# Altium footprint library 6128驱动器.PcbLib: 13 footprints
Each footprint in its own frame and in the unit in brackets; x right, y up, seen from the top. Pads: shape width x height; smd on the part's side, far side on the other; paste and mask are expansions set on the pad; w line width, h text height; cw(c..) or ccw(c..) is an arc to the next point about the centre after c.
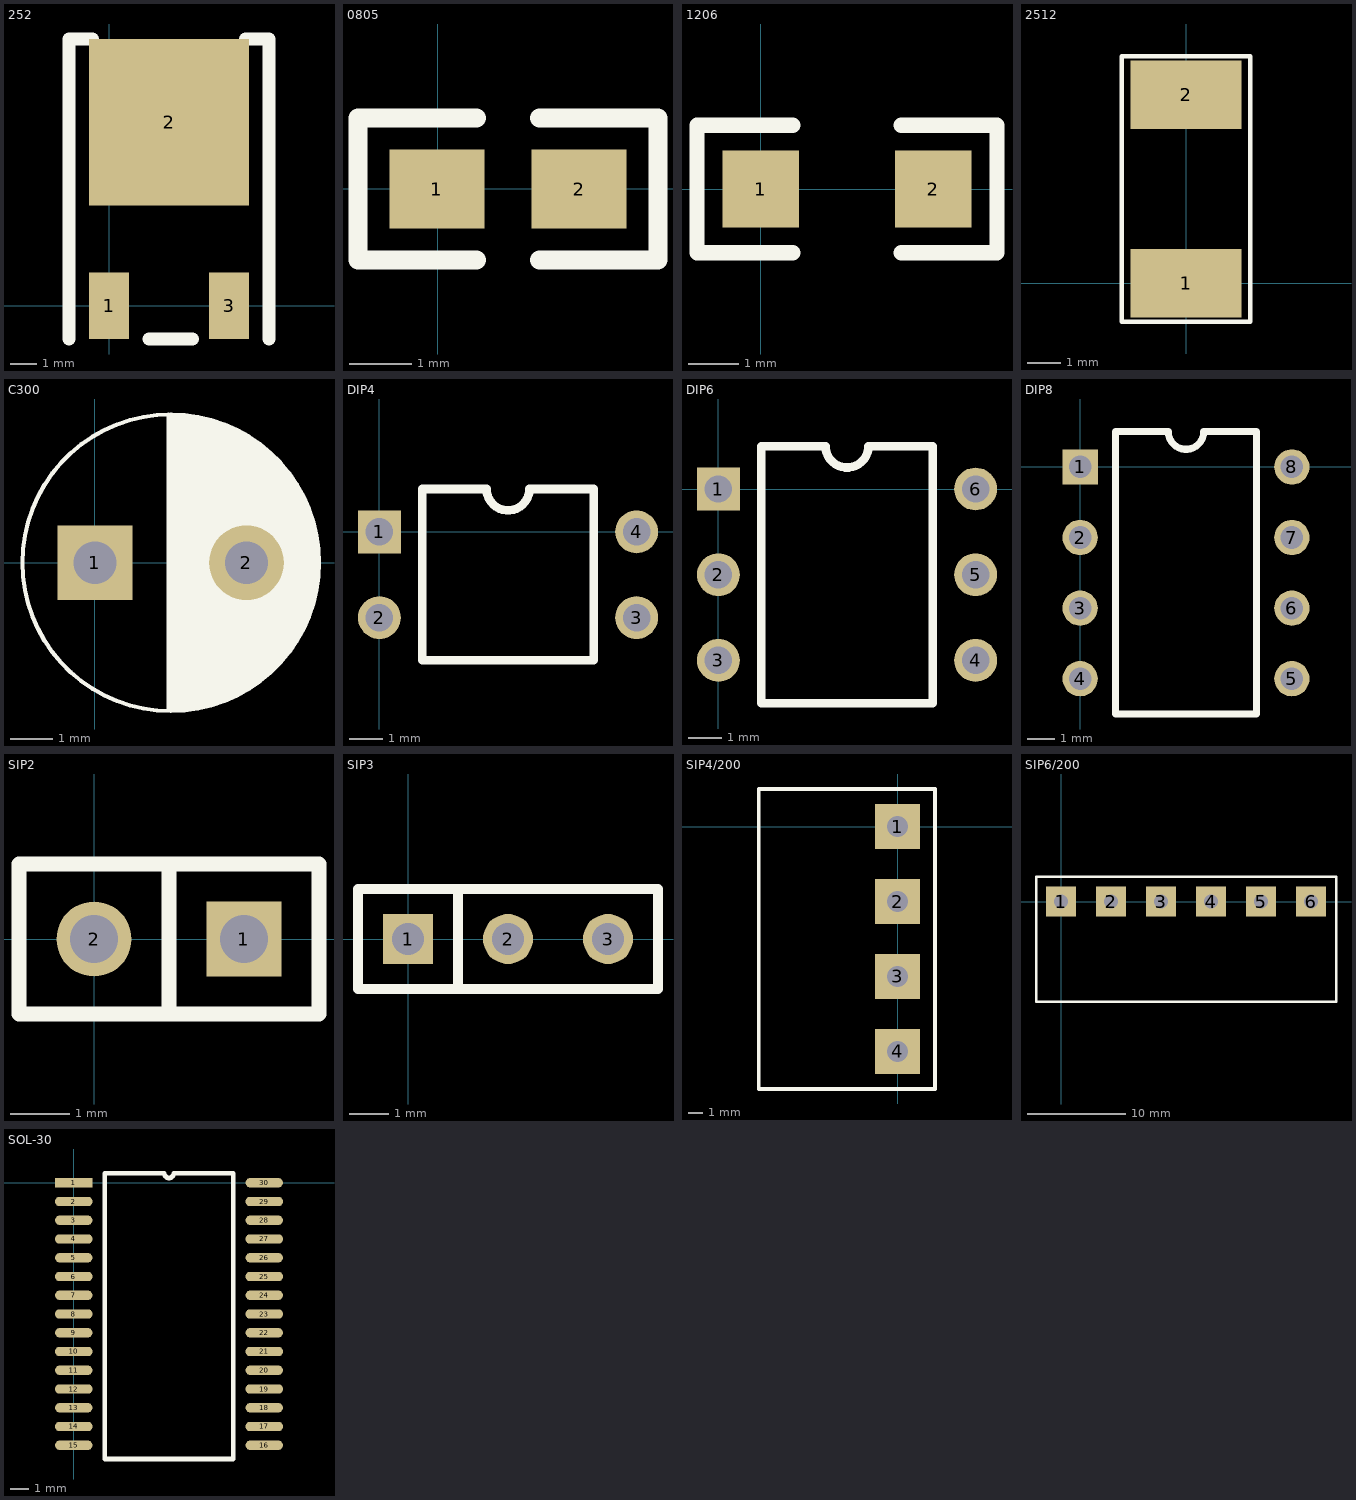
[diagram p0: the footprints below, top view; thin cyan lines are the x and y axes]

## 252 [mil]
pads (3):
  rect 60x100 smd: 1(0,0) 3(180,0)
  rect 240x250 smd: 2(90,275)
Top Overlay:
  lines w20: -60,-50 -60,400 -25,400 ; 60,-50 125,-50 ; 205,400 240,400 240,-50

## 0805 [mil]
pads (2):
  rect 60x50 smd: 1(-0.44,-0.28) 2(89.56,-0.28)
Top Overlay:
  lines w12: 24.56,-45.28 -50.44,-45.28 -50.44,44.72 24.56,44.72 ; 64.56,-45.28 139.56,-45.28 139.56,44.72 64.56,44.72

## 1206 [mil]
pads (2):
  rect 60x60 smd: 1(0,0) 2(135,0)
Top Overlay:
  lines w12: 25,-50 -50,-50 -50,50 25,50 ; 110,-50 185,-50 185,50 110,50

## 2512 [mil]
pads (2):
  rect 130x80 smd: 1(-0.39,0.06) 2(-0.39,220.06)
Top Overlay:
  lines w5: -75.39,-44.94 74.61,-44.94 74.61,265.06 -75.39,265.06 -75.39,-44.94

## C300 [mil]
pads (2):
  rect 70x70 hole 40: 1(0,0)
  round 70 hole 40: 2(141.73,0)
Top Overlay:
  circle w3.94: c70.87,0 r138.69
  lines w3.94: 68.8,-134.34 100.34,-134.34 ; 68.8,-130.4 115.09,-130.4 ; 68.8,-126.46 125.6,-126.46 ; 68.8,-122.53 134.09,-122.53 ; 68.8,-118.59 141.31,-118.59 ; 68.8,-114.65 147.64,-114.65 ; 68.8,-110.72 153.28,-110.72 ; 68.8,-106.78 158.37,-106.78 ; 68.8,-102.84 163,-102.84 ; 68.8,-98.9 167.24,-98.9 ; 68.8,-94.97 171.14,-94.97 ; 68.8,-91.03 174.74,-91.03 ; 68.8,-87.09 178.07,-87.09 ; 68.8,-83.16 181.16,-83.16 ; 68.8,-79.22 184.02,-79.22 ; 68.8,-75.28 186.67,-75.28 ; 68.8,-71.35 189.13,-71.35 ; 68.8,-67.41 191.41,-67.41 ; 68.8,-63.47 193.52,-63.47 ; 68.8,-59.53 195.46,-59.53 ; 68.8,-55.6 197.25,-55.6 ; 68.8,-51.66 198.9,-51.66 ; 68.8,-47.72 200.4,-47.72 ; 68.8,-43.79 201.76,-43.79 ; 68.8,-39.85 202.99,-39.85 ; 68.8,-35.91 204.09,-35.91 ; 68.8,-31.98 205.06,-31.98 ; 68.8,-28.04 205.91,-28.04 ; 68.8,-24.1 206.64,-24.1 ; 68.8,-20.16 207.25,-20.16 ; 68.8,-16.23 207.74,-16.23 ; 68.8,-12.29 208.12,-12.29 ; 68.8,-8.35 208.38,-8.35 ; 68.8,-4.42 208.52,-4.42 ; 68.8,-0.48 208.56,-0.48 ; 68.8,3.46 208.48,3.46 ; 68.8,7.39 208.29,7.39 ; 68.8,11.33 207.98,11.33 ; 68.8,15.27 207.57,15.27 ; 68.8,19.21 207.04,19.21 ; 68.8,23.14 206.4,23.14 ; 68.8,27.08 205.64,27.08 ; 68.8,31.02 204.76,31.02 ; 68.8,34.95 203.76,34.95 ; 68.8,38.89 202.64,38.89 ; 68.8,42.83 201.39,42.83 ; 68.8,46.76 200.02,46.76 ; 68.8,50.7 198.51,50.7 ; 68.8,54.64 196.86,54.64 ; 68.8,58.58 195.06,58.58 ; 68.8,62.51 193.12,62.51 ; 68.8,66.45 191.01,66.45 ; 68.8,70.39 188.75,70.39 ; 68.8,74.32 186.3,74.32 ; 68.8,78.26 183.67,78.26 ; 68.8,82.2 180.84,82.2 ; 68.8,86.13 177.79,86.13 ; 68.8,90.07 174.51,90.07 ; 68.8,94.01 170.98,94.01 ; 68.8,97.95 167.16,97.95 ; 68.8,101.88 163.02,101.88 ; 68.8,105.82 158.51,105.82 ; 68.8,109.76 153.59,109.76 ; 68.8,113.69 148.17,113.69 ; 68.8,117.63 142.13,117.63 ; 68.8,121.57 135.32,121.57 ; 68.8,125.5 127.47,125.5 ; 68.8,129.44 118.07,129.44 ; 68.8,133.38 105.98,133.38 ; 68.8,137.32 86.31,137.32 ; 71.66,-137.17 71.66,138.39 ; 75.59,-137.14 75.59,138.25 ; 79.53,-137 79.53,138 ; 83.47,-136.75 83.47,137.64 ; 87.4,-136.38 87.4,137.17 ; 91.34,-135.89 91.34,136.59 ; 95.28,-135.29 95.28,135.88 ; 99.21,-134.57 99.21,135.07 ; 103.15,-133.72 103.15,134.13 ; 107.09,-132.76 107.09,133.07 ; 111.03,-131.66 111.03,131.88 ; 114.96,-130.44 114.96,130.57 ; 118.9,-129.09 118.9,129.13 ; 122.84,-127.6 122.84,127.55 ; 126.77,-125.96 126.77,125.82 ; 130.71,-124.18 130.71,123.95 ; 134.65,-122.24 134.65,121.93 ; 138.58,-120.14 138.58,119.75 ; 142.52,-117.87 142.52,117.39 ; 146.46,-115.42 146.46,114.85 ; 150.4,-112.78 150.4,112.12 ; 154.33,-109.93 154.33,109.18 ; 158.27,-106.86 158.27,106.02 ; 162.21,-103.54 162.21,102.62 ; 166.14,-99.95 166.14,98.94 ; 170.08,-96.07 170.08,94.96 ; 174.02,-91.85 174.02,90.64 ; 177.95,-87.24 177.95,85.94 ; 181.89,-82.18 181.89,80.77 ; 185.83,-76.57 185.83,75.05 ; 189.77,-70.28 189.77,68.65 ; 193.7,-63.11 193.7,61.36 ; 197.64,-54.71 197.64,52.81 ; 201.58,-44.34 201.58,42.28 ; 205.51,-29.95 205.51,27.67 ; 68.8,-137.17 72.73,-137.17 ccw(c72.73,-1.35) 208.56,-1.35 ccw(c68.8,-1.35) 68.8,138.42 68.8,-137.17

## DIP4 [mil]
pads (4):
  rect 50x50 hole 32: 1(0,0)
  round 50 hole 32: 2(0,-100) 3(300,-100) 4(300,0)
Top Overlay:
  lines w10: 50,-150 250,-150 250,50 175,50 cw(c150,50) 125,50 50,50 50,-150

## DIP6 [mil]
pads (6):
  rect 50x50 hole 32: 1(0,0)
  round 50 hole 32: 2(0,-100) 3(0,-200) 4(300,-200) 5(300,-100) 6(300,0)
Top Overlay:
  lines w10: 50,-250 250,-250 250,50 175,50 cw(c150,50) 125,50 50,50 50,-250

## DIP8 [mil]
pads (8):
  rect 50x50 hole 32: 1(0,-0.42)
  round 50 hole 32: 2(0,-100.42) 3(0,-200.42) 4(0,-300.42) 5(300,-300.42) 6(300,-200.42) 7(300,-100.42) 8(300,-0.42)
Top Overlay:
  lines w10: 50,-350.42 50,49.58 125,49.58 ccw(c150,49.58) 175,49.58 250,49.58 250,-350.42 50,-350.42

## SIP2 [mil]
pads (2):
  rect 50x50 hole 32: 1(100,0)
  round 50 hole 32: 2(0,0)
Top Overlay:
  lines w10: 50,-50 50,50 ; -50,-50 150,-50 150,50 -50,50 -50,-50

## SIP3 [mil]
pads (3):
  rect 50x50 hole 32: 1(0,0)
  round 50 hole 32: 2(100,0) 3(200,0)
Top Overlay:
  lines w10: 50,-50 50,50 ; -50,-50 250,-50 250,50 -50,50 -50,-50

## SIP4/200 [mil]
pads (4):
  rect 120x120 hole 56: 1(0,0) 2(0,-200) 3(0,-400) 4(0,-600)
Top Overlay:
  lines w10: -370,-700 100,-700 100,100 -370,100 -370,-700

## SIP6/200 [mil]
pads (6):
  rect 120x120 hole 56: 1(0,0) 2(200,0) 3(400,0) 4(600,0) 5(800,0) 6(1000,0)
Top Overlay:
  lines w10: -80,100 -100,100 -100,50 -100,-400 1100,-400 1100,100 -75,100

## SOL-30 [mm]
pads (30):
  rect 2x0.5 smd: 1(0.01,-0.004)
  oval 2x0.5 smd: 2(0.01,-1.004) 3(0.01,-2.004) 4(0.01,-3.004) 5(0.01,-4.004) 6(0.01,-5.004) 7(0.01,-6.004) 8(0.01,-7.004) 9(0.01,-8.004) 10(0.01,-9.004) 11(0.01,-10.004) 12(0.01,-11.004) 13(0.01,-12.004) 14(0.01,-13.004) 15(0.01,-14.004) 16(10.17,-14.004) 17(10.17,-13.004) 18(10.17,-12.004) 19(10.17,-11.004) 20(10.17,-10.004) 21(10.17,-9.004) 22(10.17,-8.004) 23(10.17,-7.004) 24(10.17,-6.004) 25(10.17,-5.004) 26(10.17,-4.004) 27(10.17,-3.004) 28(10.17,-2.004) 29(10.17,-1.004) 30(10.17,-0.004)
Top Overlay:
  lines w0.254: 1.661,-14.736 8.519,-14.736 8.519,0.504 5.344,0.504 cw(c5.09,0.504) 4.836,0.504 1.661,0.504 1.661,-14.736